# EAGLE library part REG_LTC1502 (library akita)
LinearTechnology LTC1502(-3.3), Charge-pump regulator
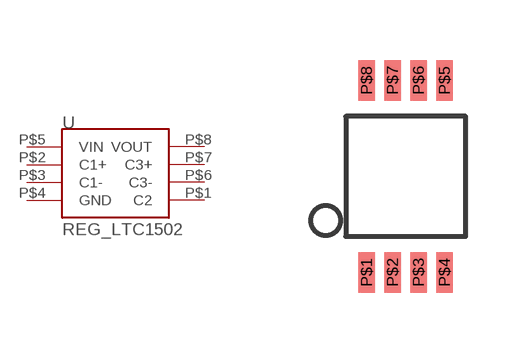
[diagram p145: symbol with the pads of MSOP8; footprint MSOP8]

Designator prefix U

## REG_LTC1502  [MSOP8]
P$1  C2
P$2  C1+
P$3  C1-
P$4  GND
P$5  VIN
P$6  C3-
P$7  C3+
P$8  VOUT

## Footprint MSOP8 (pad centres in mm)
smd 0.41 x 1.02: P$1 -0.975,-2.4; P$2 -0.325,-2.4; P$3 0.325,-2.4; P$4 0.975,-2.4; P$5 0.975,2.4; P$6 0.325,2.4; P$7 -0.325,2.4; P$8 -0.975,2.4